# EAGLE library part TS_DR_6 (library TST_Connnector)
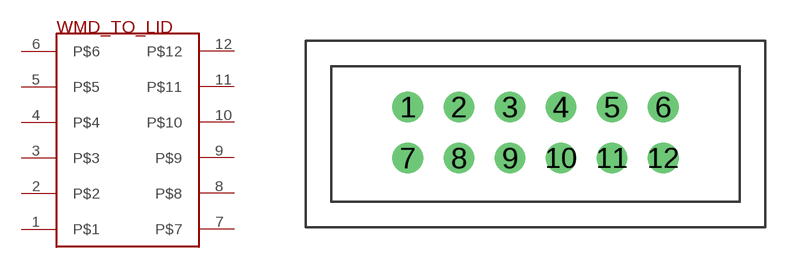
[diagram p0: symbol with the pads of TST_DR_6; footprint TST_DR_6]

Designator prefix -

## TS_DR_6  [TST_DR_6]
1  P$1
2  P$2
3  P$3
4  P$4
5  P$5
6  P$6
7  P$7
8  P$8
9  P$9
10  P$10
11  P$11
12  P$12

## Footprint TST_DR_6 (pad centres in mm)
drill 1.016: 1 5.08,5.969; 2 7.62,5.969; 3 10.16,5.969; 4 12.7,5.969; 5 15.24,5.969; 6 17.78,5.969; 7 5.08,3.429; 8 7.62,3.429; 9 10.16,3.429; 10 12.7,3.429; 11 15.24,3.429; 12 17.78,3.429